# Altium integrated library Resistors.IntLib: 4 symbols
Pins are listed as number, name and electrical type; pins without a type are passive.

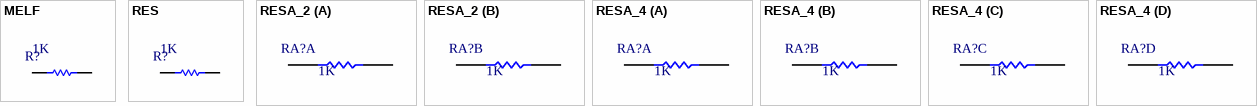
[diagram p0: symbols MELF to RESA_4]

## MELF
designator R?  value 1K
MELF Resistors; PowerRating: 0.25W
footprint MELF_0102
footprint MELF_0102-L
footprint MELF_0102-M
footprint MELF_0204
footprint MELF_0204-L
footprint MELF_0204-M
footprint MELF_0207
footprint MELF_0207-L
footprint MELF_0207-M
pins: 1, 2

## RES
designator R?  value 1K
Chip Resistors; PowerRating: 0.25W
footprint RC0201N
footprint RC0201N-L
footprint RC0201N-M
footprint RC0402N
footprint RC0402N-L
footprint RC0402N-M
footprint RC0603N
footprint RC0603N-L
footprint RC0603N-M
footprint RC0805N
footprint RC0805N-L
footprint RC0805N-M
footprint RC1206N
footprint RC1206N-L
footprint RC1206N-M
pins: 1, 2

## RESA_2
designator RA?  value 1K
Resistor Arrays With 2 Resistors; PowerRating: 0.25W
footprint RA0603X2
footprint RA0603X2-L
footprint RA0603X2-M
part A pins: 1, 3
part B pins: 2, 4

## RESA_4
designator RA?  value 1K
Resistor Arrays With 4 Resistors; PowerRating: 0.25W
footprint RA0603X4
footprint RA0603X4-L
footprint RA0603X4-M
part A pins: 1, 5
part B pins: 2, 6
part C pins: 3, 7
part D pins: 4, 8